# EAGLE library part W5200 (library maxorig)
WIZnet W5200 QFN48
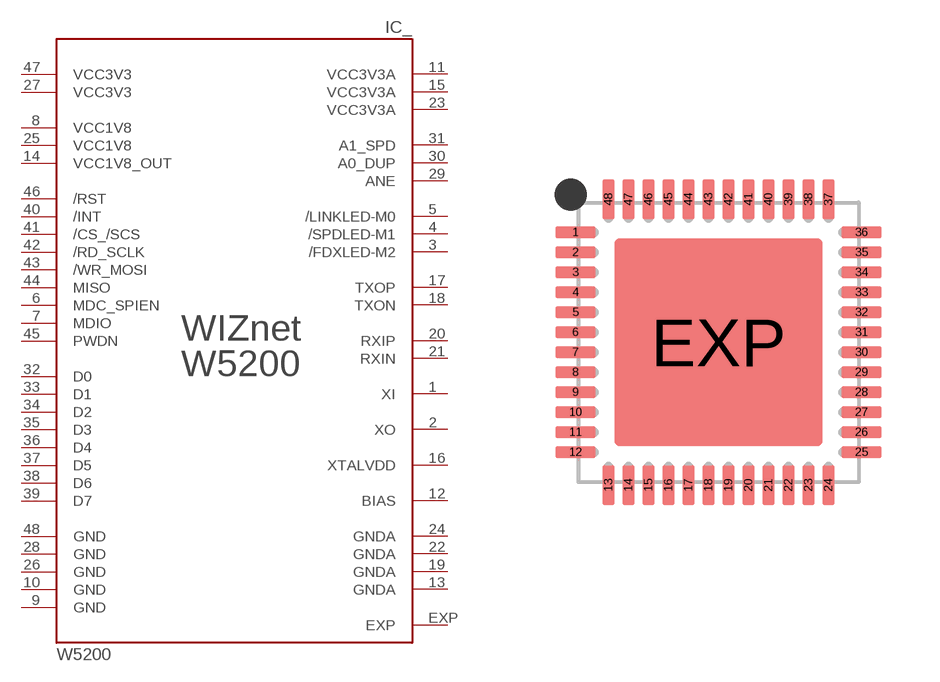
[diagram p30: symbol with the pads of QFN48; footprint QFN48]

Designator prefix IC_

## W5200-QFN  [QFN48]
1  XI
2  XO
3  /FDXLED-M2
4  /SPDLED-M1
5  /LINKLED-M0
6  MDC_SPIEN
7  MDIO
8  VCC1V8
9  GND
10  GND
11  VCC3V3A
12  BIAS
13  GNDA
14  VCC1V8_OUT
15  VCC3V3A
16  XTALVDD
17  TXOP
18  TXON
19  GNDA
20  RXIP
21  RXIN
22  GNDA
23  VCC3V3A
24  GNDA
25  VCC1V8
26  GND
27  VCC3V3
28  GND
29  ANE
30  A0_DUP
31  A1_SPD
32  D0
33  D1
34  D2
35  D3
36  D4
37  D5
38  D6
39  D7
40  /INT
41  /CS_/SCS
42  /RD_SCLK
43  /WR_MOSI
44  MISO
45  PWDN
46  /RST
47  VCC3V3
48  GND
EXP  EXP

## Footprint QFN48 (pad centres in mm)
smd 1 x 0.3: 1 -3.575,2.75; 2 -3.575,2.25; 3 -3.575,1.75; 4 -3.575,1.25; 5 -3.575,0.75; 6 -3.575,0.25; 7 -3.575,-0.25; 8 -3.575,-0.75; 9 -3.575,-1.25; 10 -3.575,-1.75; 11 -3.575,-2.25; 12 -3.575,-2.75; 25 3.575,-2.75; 26 3.575,-2.25; 27 3.575,-1.75; 28 3.575,-1.25; 29 3.575,-0.75; 30 3.575,-0.25; 31 3.575,0.25; 32 3.575,0.75; 33 3.575,1.25; 34 3.575,1.75; 35 3.575,2.25; 36 3.575,2.75
smd 0.3 x 1: 13 -2.75,-3.575; 14 -2.25,-3.575; 15 -1.75,-3.575; 16 -1.25,-3.575; 17 -0.75,-3.575; 18 -0.25,-3.575; 19 0.25,-3.575; 20 0.75,-3.575; 21 1.25,-3.575; 22 1.75,-3.575; 23 2.25,-3.575; 24 2.75,-3.575; 37 2.75,3.575; 38 2.25,3.575; 39 1.75,3.575; 40 1.25,3.575; 41 0.75,3.575; 42 0.25,3.575; 43 -0.25,3.575; 44 -0.75,3.575; 45 -1.25,3.575; 46 -1.75,3.575; 47 -2.25,3.575; 48 -2.75,3.575
smd 5.2 x 5.2: EXP 0,0